# Altium schematic symbol library Schlib_NIIET.SchLib: 2 symbols
Pins are listed as number, name and electrical type; pins without a type are passive.

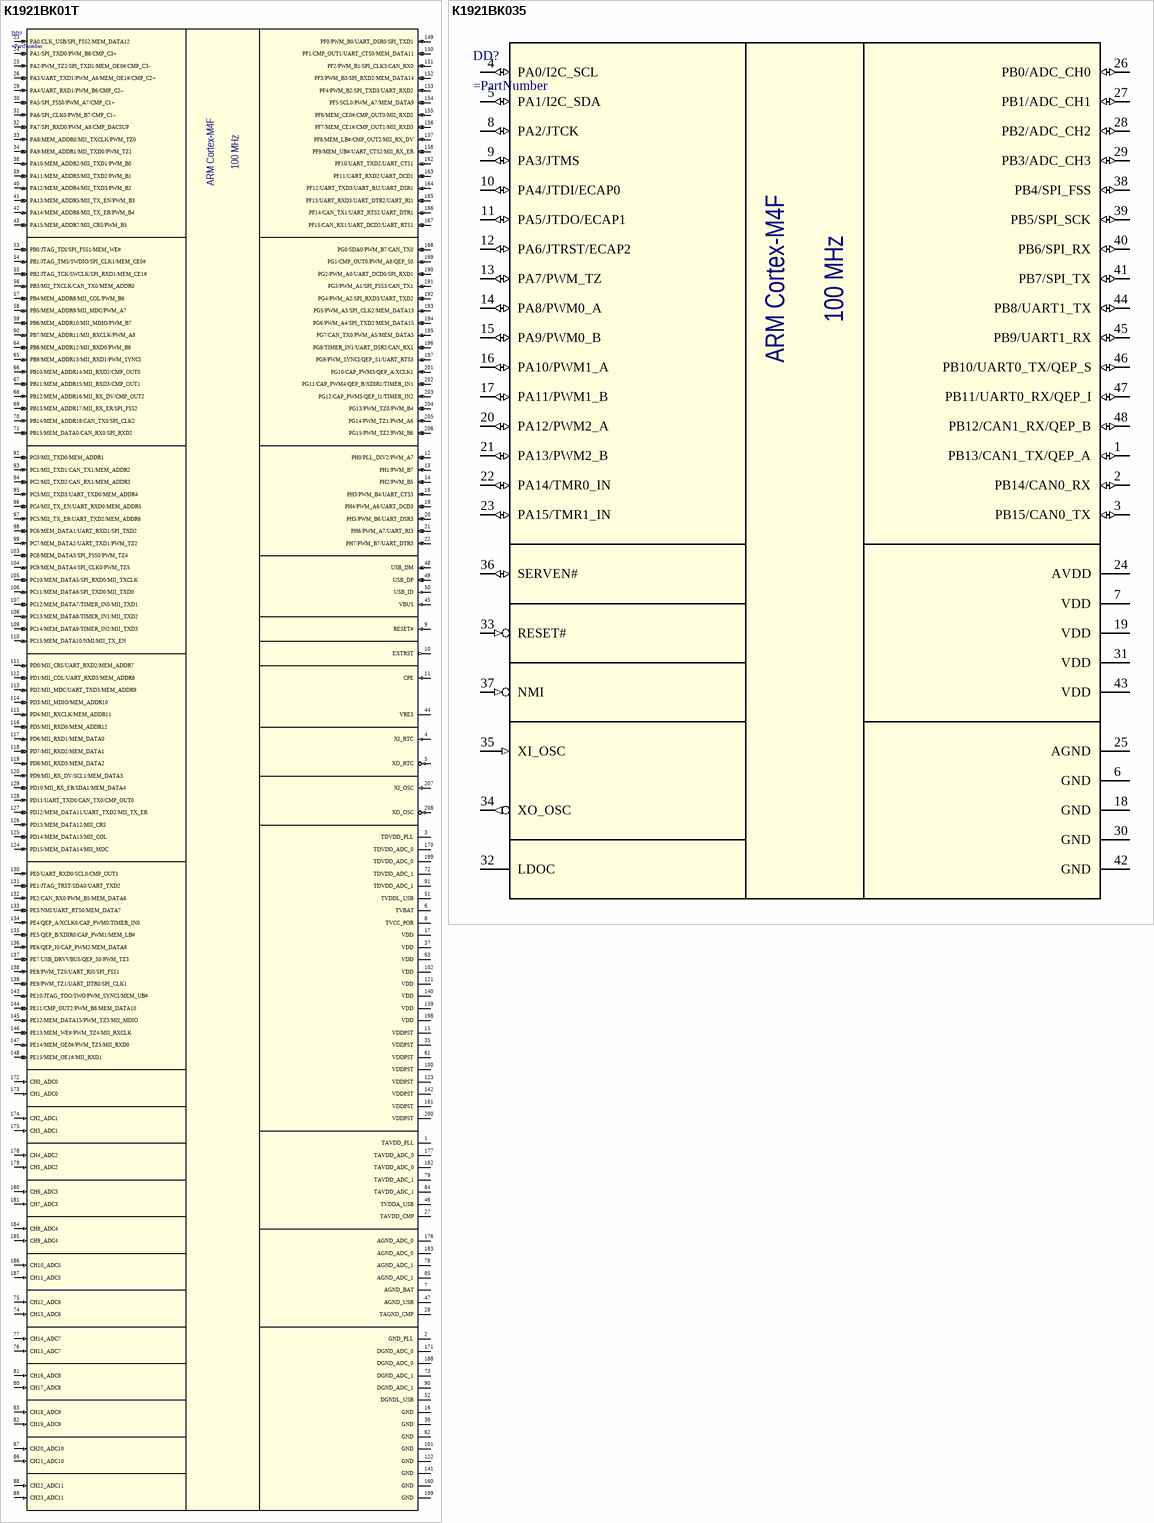
[diagram p0: symbols К1921ВК01Т to К1921ВК035]

## К1921ВК01Т
designator DD?
Cortex-M4F MCU, 1024 KB Flash, 100 MHz; Part Number: К1921ВК01Т; ТУ: АДКБ.431290.273
footprint PQFP-208 (SQFP, 208-Leads, Body 28.00x28.00mm, Pitch 0.50mm, IPC Medium Density)
pins: 1 TAVDD_PLL (power), 2 GND_PLL (power), 3 TDVDD_PLL (power), 4 XI_RTC (in), 5 XO_RTC (in), 6 TVBAT (power), 7 AGND_BAT (power), 8 TVCC_POR (power), 9 RESET# (in), 10 EXTRST (out), 11 CPE (in), 12 PH0/PLL_DIV2/PWM_A7 (io), 13 PH1/PWM_B7 (io), 14 PH2/PWM_B5 (io), 15 VDDPST (power), 16 GND (power), 17 VDD (power), 18 PH3/PWM_B4/UART_CTS3 (io), 19 PH4/PWM_A6/UART_DCD3 (io), 20 PH5/PWM_B6/UART_DSR3 (io), 21 PH6/PWM_A7/UART_RI3 (io), 22 PH7/PWM_B7/UART_DTR3 (io), 23 PA0/CLK_USB/SPI_FSS2/MEM_DATA12 (io), 24 PA1/SPI_TXD0/PWM_B8/CMP_C3+ (io), 25 PA2/PWM_TZ2/SPI_TXD1/MEM_OE0#/CMP_C3- (io), 26 PA3/UART_TXD1/PWM_A6/MEM_OE1#/CMP_C2+ (io), 27 TAVDD_CMP (power), 28 TAGND_CMP (power), 29 PA4/UART_RXD1/PWM_B6/CMP_C2– (io), 30 PA5/SPI_FSS0/PWM_A7/CMP_C1+ (io), 31 PA6/SPI_CLK0/PWM_B7/CMP_C1– (io), 32 PA7/SPI_RXD0/PWM_A8/CMP_DACSUP (io), 33 PA8/MEM_ADDR0/MII_TXCLK/PWM_TZ0 (io), 34 PA9/MEM_ADDR1/MII_TXD0/PWM_TZ1 (io), 35 VDDPST (power), 36 GND (power), 37 VDD (power), 38 PA10/MEM_ADDR2/MII_TXD1/PWM_B0 (io), 39 PA11/MEM_ADDR3/MII_TXD2/PWM_B1 (io), 40 PA12/MEM_ADDR4/MII_TXD3/PWM_B2 (io), 41 PA13/MEM_ADDR5/MII_TX_EN/PWM_B3 (io), 42 PA14/MEM_ADDR6/MII_TX_ER/PWM_B4 (io), 43 PA15/MEM_ADDR7/MII_CRS/PWM_B5 (io), 44 VRES, 45 VBUS (in), 46 TVDDA_USB (power), 47 AGND_USB (power), 48 USB_DM (io), 49 USB_DP (io), 50 USB_ID (in), 51 TVDDL_USB (power), 52 DGNDL_USB (power), 53 PB0/JTAG_TDI/SPI_FSS1/MEM_WE# (io), 54 PB1/JTAG_TMS/SWDIO/SPI_CLK1/MEM_CE0# (io), 55 PB2/JTAG_TCK/SWCLK/SPI_RXD1/MEM_CE1# (io), 56 PB3/MII_TXCLK/CAN_TX0/MEM_ADDR0 (io), 57 PB4/MEM_ADDR8/MII_COL/PWM_B6 (io), 58 PB5/MEM_ADDR9/MII_MDC/PWM_A7 (io), 59 PB6/MEM_ADDR10/MII_MDIO/PWM_B7 (io), 60 PB7/MEM_ADDR11/MII_RXCLK/PWM_A8 (io), 61 VDDPST (power), 62 GND (power), 63 VDD (power), 64 PB8/MEM_ADDR12/MII_RXD0/PWM_B8 (io), 65 PB9/MEM_ADDR13/MII_RXD1/PWM_SYNCI (io), 66 PB10/MEM_ADDR14/MII_RXD2/CMP_OUT0 (io), 67 PB11/MEM_ADDR15/MII_RXD3/CMP_OUT1 (io), 68 PB12/MEM_ADDR16/MII_RX_DV/CMP_OUT2 (io), 69 PB13/MEM_ADDR17/MII_RX_ER/SPI_FSS2 (io), 70 PB14/MEM_ADDR18/CAN_TX0/SPI_CLK2 (io), 71 PB15/MEM_DATA0/CAN_RX0/SPI_RXD2 (io), 72 TDVDD_ADC_1 (power), 73 DGND_ADC_1 (power), 74 CH13_ADC6 (in), 75 CH12_ADC6 (in), 76 CH15_ADC7 (in), 77 CH14_ADC7 (in), 78 AGND_ADC_1 (power), 79 TAVDD_ADC_1 (power), 80 CH17_ADC8 (in), 81 CH16_ADC8 (in), 82 CH19_ADC9 (in), 83 CH18_ADC9 (in), 84 TAVDD_ADC_1 (power), 85 AGND_ADC_1 (power), 86 CH21_ADC10 (in), 87 CH20_ADC10 (in), 88 CH22_ADC11 (in), 89 CH23_ADC11 (in), 90 DGND_ADC_1 (power), 91 TDVDD_ADC_1 (power), 92 PC0/MII_TXD0/MEM_ADDR1 (io), 93 PC1/MII_TXD1/CAN_TX1/MEM_ADDR2 (io), 94 PC2/MII_TXD2/CAN_RX1/MEM_ADDR3 (io), 95 PC3/MII_TXD3/UART_TXD0/MEM_ADDR4 (io), 96 PC4/MII_TX_EN/UART_RXD0/MEM_ADDR5 (io), 97 PC5/MII_TX_ER/UART_TXD2/MEM_ADDR6 (io), 98 PC6/MEM_DATA1/UART_RXD1/SPI_TXD2 (io), 99 PC7/MEM_DATA2/UART_TXD1/PWM_TZ2 (io), 100 VDDPST (power), 101 GND (power), 102 VDD (power), 103 PC8/MEM_DATA3/SPI_FSS0/PWM_TZ4 (io), 104 PC9/MEM_DATA4/SPI_CLK0/PWM_TZ5 (io), 105 PC10/MEM_DATA5/SPI_RXD0/MII_TXCLK (io), 106 PC11/MEM_DATA6/SPI_TXD0/MII_TXD0 (io), 107 PC12/MEM_DATA7/TIMER_IN0/MII_TXD1 (io), 108 PC13/MEM_DATA8/TIMER_IN1/MII_TXD2 (io), 109 PC14/MEM_DATA9/TIMER_IN2/MII_TXD3 (io), 110 PC15/MEM_DATA10/NMI/MII_TX_EN (io), 111 PD0/MII_CRS/UART_RXD2/MEM_ADDR7 (io), 112 PD1/MII_COL/UART_RXD3/MEM_ADDR8 (io), 113 PD2/MII_MDC/UART_TXD3/MEM_ADDR9 (io), 114 PD3/MII_MDIO/MEM_ADDR10 (io), 115 PD4/MII_RXCLK/MEM_ADDR11 (io), 116 PD5/MII_RXD0/MEM_ADDR12 (io), 117 PD6/MII_RXD1/MEM_DATA0 (io), 118 PD7/MII_RXD2/MEM_DATA1 (io), 119 PD8/MII_RXD3/MEM_DATA2 (io), 120 PD9/MII_RX_DV/SCL1/MEM_DATA3 (io), 121 VDD (power), 122 GND (power), 123 VDDPST (power), 124 PD15/MEM_DATA14/MII_MDC (io), 125 PD14/MEM_DATA13/MII_COL (io), 126 PD13/MEM_DATA12/MII_CRS (io), 127 PD12/MEM_DATA11/UART_TXD2/MII_TX_ER (io), 128 PD11/UART_TXD0/CAN_TX0/CMP_OUT0 (io), 129 PD10/MII_RX_ER/SDA1/MEM_DATA4 (io), 130 PE0/UART_RXD0/SCL0/CMP_OUT1 (io), 131 PE1/JTAG_TRST/SDA0/UART_TXD2 (io), 132 PE2/CAN_RX0/PWM_B5/MEM_DATA6 (io), 133 PE3/NMI/UART_RTS0/MEM_DATA7 (io), 134 PE4/QEP_A/XCLK0/CAP_PWM0/TIMER_IN0 (io), 135 PE5/QEP_B/XDIR0/CAP_PWM1/MEM_LB# (io), 136 PE6/QEP_I0/CAP_PWM2/MEM_DATA8 (io), 137 PE7/USB_DRVVBUS/QEP_S0/PWM_TZ3 (io), 138 PE8/PWM_TZ0/UART_RI0/SPI_FSS1 (io), 139 PE9/PWM_TZ1/UART_DTR0/SPI_CLK1 (io), 140 VDD (power), 141 GND (power), 142 VDDPST (power), 143 PE10/JTAG_TDO/SWO/PWM_SYNCI/MEM_UB# (io), 144 PE11/CMP_OUT2/PWM_B8/MEM_DATA10 (io), 145 PE12/MEM_DATA15/PWM_TZ3/MII_MDIO (io), 146 PE13/MEM_WE#/PWM_TZ4/MII_RXCLK (io), 147 PE14/MEM_OE0#/PWM_TZ5/MII_RXD0 (io), 148 PE15/MEM_OE1#/MII_RXD1 (io), 149 PF0/PWM_B0/UART_DSR0/SPI_TXD1 (io), 150 PF1/CMP_OUT1/UART_CTS0/MEM_DATA11 (io), 151 PF2/PWM_B1/SPI_CLK3/CAN_RX0 (io), 152 PF3/PWM_B3/SPI_RXD2/MEM_DATA14 (io), 153 PF4/PWM_B2/SPI_TXD3/UART_RXD2 (io), 154 PF5/SCL0/PWM_A7/MEM_DATA9 (io), 155 PF6/MEM_CE0#/CMP_OUT0/MII_RXD2 (io), 156 PF7/MEM_CE1#/CMP_OUT1/MII_RXD3 (io), 157 PF8/MEM_LB#/CMP_OUT2/MII_RX_DV (io), 158 PF9/MEM_UB#/UART_CTS2/MII_RX_ER (io), 159 VDD (power), 160 GND (power), 161 VDDPST (power), 162 PF10/UART_TXD2/UART_CTS1 (io), 163 PF11/UART_RXD2/UART_DCD1 (io), 164 PF12/UART_TXD3/UART_RI2/UART_DSR1 (io), 165 PF13/UART_RXD3/UART_DTR2/UART_RI1 (io), 166 PF14/CAN_TX1/UART_RTS2/UART_DTR1 (io), 167 PF15/CAN_RX1/UART_DCD2/UART_RTS1 (io), 168 PG0/SDA0/PWM_B7/CAN_TX0 (io), 169 PG1/CMP_OUT0/PWM_A8/QEP_S0 (io), 170 TDVDD_ADC_0 (power), 171 DGND_ADC_0 (power), 172 CH0_ADC0 (in), 173 CH1_ADC0 (in), 174 CH2_ADC1 (in), 175 CH3_ADC1 (in), 176 AGND_ADC_0 (power), 177 TAVDD_ADC_0 (power), 178 CH4_ADC2 (in), 179 CH5_ADC2 (in), 180 CH6_ADC3 (in), 181 CH7_ADC3 (in), 182 TAVDD_ADC_0 (power), 183 AGND_ADC_0 (power), 184 CH8_ADC4 (in), 185 CH9_ADC4 (in), 186 CH10_ADC5 (in), 187 CH11_ADC5 (in), 188 DGND_ADC_0 (power), 189 TDVDD_ADC_0 (power), 190 PG2/PWM_A0/UART_DCD0/SPI_RXD1 (io), 191 PG3/PWM_A1/SPI_FSS3/CAN_TX1 (io), 192 PG4/PWM_A2/SPI_RXD3/UART_TXD2 (io), 193 PG5/PWM_A3/SPI_CLK2/MEM_DATA13 (io), 194 PG6/PWM_A4/SPI_TXD2/MEM_DATA15 (io), 195 PG7/CAN_TX0/PWM_A5/MEM_DATA5 (io), 196 PG8/TIMER_IN1/UART_DSR2/CAN_RX1 (io), 197 PG9/PWM_SYNCI/QEP_S1/UART_RTS3 (io), 198 VDD (power), 199 GND (power), 200 VDDPST (power), 201 PG10/CAP_PWM3/QEP_A/XCLK1 (io), 202 PG11/CAP_PWM4/QEP_B/XDIR1/TIMER_IN1 (io), 203 PG12/CAP_PWM5/QEP_I1/TIMER_IN2 (io), 204 PG13/PWM_TZ0/PWM_B4 (io), 205 PG14/PWM_TZ1/PWM_A6 (io), 206 PG15/PWM_TZ2/PWM_B6 (io), 207 XI_OSC (in), 208 XO_OSC (in)
text: ARM Cortex-M4F; 100 MHz

## К1921ВК035
designator DD?
Cortex-M4F MCU, 64 KB Flash, 16 KB RAM 100 MHz; Part Number: К1921ВК035; ТУ: АЕНВ.431290.448
footprint 5162.48-1
pins: 1 PB13/CAN1_TX/QEP_A (io), 2 PB14/CAN0_RX (io), 3 PB15/CAN0_TX (io), 4 PA0/I2C_SCL (io), 5 PA1/I2C_SDA (io), 6 GND (power), 7 VDD (power), 8 PA2/JTCK (io), 9 PA3/JTMS (io), 10 PA4/JTDI/ECAP0 (io), 11 PA5/JTDO/ECAP1 (io), 12 PA6/JTRST/ECAP2 (io), 13 PA7/PWM_TZ (io), 14 PA8/PWM0_A (io), 15 PA9/PWM0_B (io), 16 PA10/PWM1_A (io), 17 PA11/PWM1_B (io), 18 GND (power), 19 VDD (power), 20 PA12/PWM2_A (io), 21 PA13/PWM2_B (io), 22 PA14/TMR0_IN (io), 23 PA15/TMR1_IN (io), 24 AVDD (power), 25 AGND (power), 26 PB0/ADC_CH0 (io), 27 PB1/ADC_CH1 (io), 28 PB2/ADC_CH2 (io), 29 PB3/ADC_CH3 (io), 30 GND (power), 31 VDD (power), 32 LDOC, 33 RESET# (in), 34 XO_OSC (out), 35 XI_OSC (in), 36 SERVEN# (io), 37 NMI (in), 38 PB4/SPI_FSS (io), 39 PB5/SPI_SCK (io), 40 PB6/SPI_RX (io), 41 PB7/SPI_TX (io), 42 GND (power), 43 VDD (power), 44 PB8/UART1_TX (io), 45 PB9/UART1_RX (io), 46 PB10/UART0_TX/QEP_S (io), 47 PB11/UART0_RX/QEP_I (io), 48 PB12/CAN1_RX/QEP_B (io)
text: ARM Cortex-M4F; 100 MHz